# EAGLE library part NOKIA3310LCD (library CEDTv40 (1))
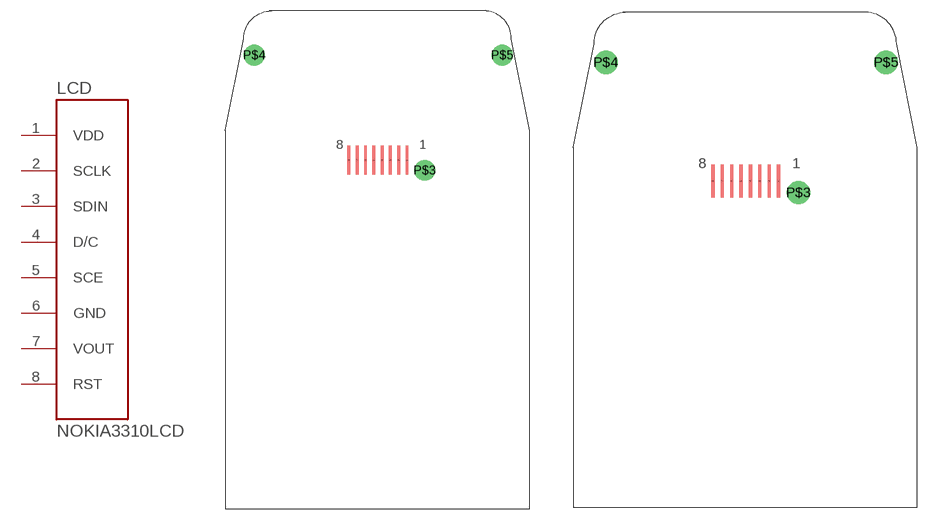
[diagram p34: symbol with the pads of NOKIA3310LCDLARGE; footprints NOKIA3310LCDLARGE, NOKIA3310LCDSMALL]

Designator prefix LCD

## NOKIA3310LCDLARGE  [NOKIA3310LCDLARGE]
1  VDD
2  SCLK
3  SDIN
4  D/C
5  SCE
6  GND
7  VOUT
8  RST

## NOKIA3310LCDSMALL  [NOKIA3310LCDSMALL]
Pads as for NOKIA3310LCDLARGE

## NOKIA3310LCDHOLE  [NOKIA3310LCDHOLE]
Pads as for NOKIA3310LCDLARGE

## Footprint NOKIA3310LCDLARGE (pad centres in mm)
Nokia 3310 LCD smd pads Large Size
smd 0.4 x 4: 1 24.994,48; 2 23.852,48; 3 22.71,48; 4 21.568,48; 5 20.426,48; 6 19.284,48; 7 18.142,48; 8 17,48
drill 1.905: P$3 27.432,46.609; P$4 3.962,62.484; P$5 38.1,62.484

## Footprint NOKIA3310LCDSMALL (pad centres in mm)
Nokia 3310 LCD sms pads small size
smd 0.4 x 4: 1 24.994,39.745; 2 23.852,39.745; 3 22.71,39.745; 4 21.568,39.745; 5 20.426,39.745; 6 19.284,39.745; 7 18.142,39.745; 8 17,39.745
drill 1.905: P$3 27.432,38.354; P$4 3.962,54.229; P$5 38.1,54.229

## Footprint NOKIA3310LCDHOLE (pad centres in mm)
Nokia 3310 LCD Through hole
drill 0.914 long: 1 34.036,67.183; 2 31.496,67.183; 3 28.956,67.183; 4 26.416,67.183; 5 23.876,67.183; 6 21.336,67.183; 7 18.796,67.183; 8 16.256,67.183
drill 1.6 pad 6.452: P$1 3.81,66.04; P$2 45.72,66.04